# Altium schematic symbol library Schlib1.SchLib: 15 symbols
Pins are listed as number, name and electrical type; pins without a type are passive.

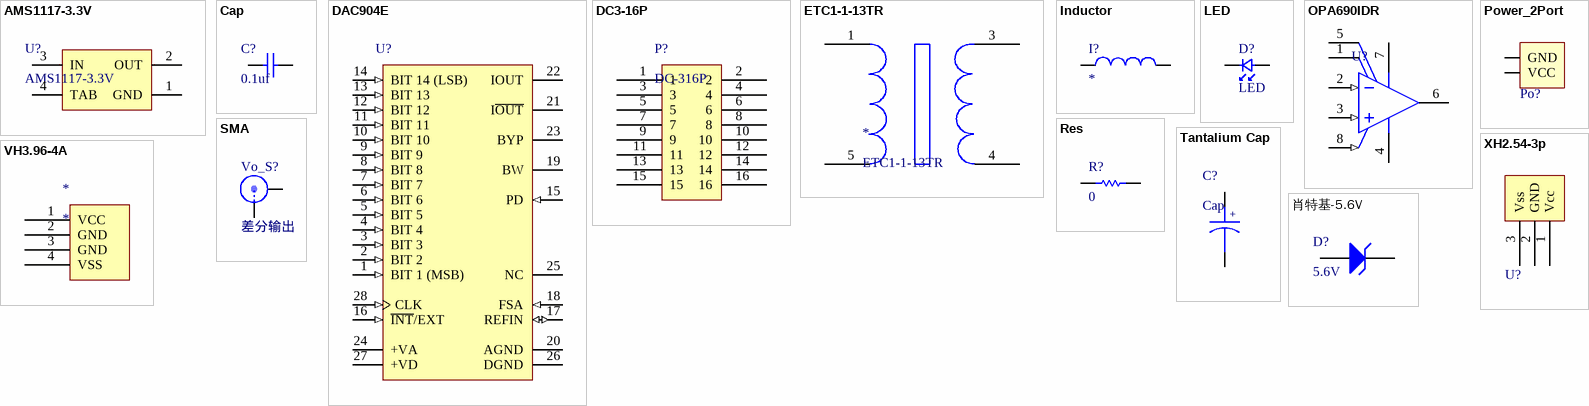
[diagram p0: symbols AMS1117-3.3V to 肖特基-5.6V]

## AMS1117-3.3V
designator U?
footprint SOT223
pins: 1 GND (power), 2 OUT (power), 3 IN (power), 4 TAB (power)

## Cap
designator C?, comment 0.1uf
footprint 0805
footprint 0603C
pins: 1, 2

## DAC904E
designator U?
14-Bit, 165 MSPS SpeedPlus(TM) DAC Scalable Current Outputs between 2 to 20 mA, -40 to 85 degC, 28-pin SOP (PW28), Green (RoHS & no Sb/Br); Manufacturer: Texas Instruments; PartNumber: DAC904E; DAC Channels: 1; Interface: Parallel CMOS; Power Consumption(Typ)(mW): 170; Resolution(Bits): 14; Settling Time(us): 0.03; SFDR(dB): 76; SubFamily: High Speed DAC (>10MSPS); DatasheetVersion: SBAS095C; PackageVersion: 4040064-7/G, 02/2011; PackageReference: PW28; PackageDescription: 28-Pin Plastic Small Outline, Body 9.7 x 4.4 mm, Pitch 0.65 mm; Eco-Plan: Green (RoHS & no Sb/Br); Mounting Technology: Surface Mount; Code_JEDEC: MO-153; ComponentLink1Description: Manufacturer URL; ComponentLink1URL: http://www.ti.com/; ComponentLink2Description: Datasheet; ComponentLink2URL: http://www.ti.com/general/docs/lit/getliterature.tsp?genericPartNumber=DAC904&fileType=pdf; ComponentLink3Description: Package Specification; ComponentLink3URL: http://www.ti.com/litv/pdf/mpds364
footprint TI-PW28_N (SOP, 28-Leads, Body 9.7x4.4mm, Pitch 0.65mm, IPC Medium Density)
footprint TI-PW28_L (SOP, 28-Leads, Body 9.7x4.4mm, Pitch 0.65mm, IPC High Density)
footprint TI-PW28_M (SOP, 28-Leads, Body 9.7x4.4mm, Pitch 0.65mm, IPC Low Density)
pins: 1 BIT 1 (MSB) (in) "Data Bit 1 (D13), MSB", 2 BIT 2 (in) "Data Bit 2 (D12)", 3 BIT 3 (in) "Data Bit 3 (D11)", 4 BIT 4 (in) "Data Bit 4 (D10)", 5 BIT 5 (in) "Data Bit 5 (D9)", 6 BIT 6 (in) "Data Bit 6 (D8)", 7 BIT 7 (in) "Data Bit 7 (D7)", 8 BIT 8 (in) "Data Bit 8 (D6)", 9 BIT 9 (in) "Data Bit 9 (D5)", 10 BIT 10 (in) "Data Bit 10 (D4)", 11 BIT 11 (in) "Data Bit 11 (D3)", 12 BIT 12 (in) "Data Bit 12 (D2)", 13 BIT 13 (in) "Data Bit 13 (D1)", 14 BIT 14 (LSB) (in) "Data Bit 14 (D0), LSB", 15 PD (in) "Power Down, Control Input; Active HIGH. Contains internal pull-down circuit; may be left unconnected if not used.", 16 ~{INT}/EXT (in) "Reference Select Pin; Internal ( = 0) or External ( = 1) Reference Operation", 17 REFIN (io) "Reference Input/Ouput. See Applications section for further details.", 18 FSA (in) "Full-Scale Output Adjust", 19 BW "Bandwidth/Noise Reduction Pin: Bypass with 0.1uF to +VA for Optimum Performance. (Optional)", 20 AGND (power) "Analog Ground", 21 I~{OUT} (hiz) "Complementary DAC Current Output", 22 IOUT (hiz) "DAC Current Output", 23 BYP "Bypass Node: Use 0.1uF to AGND", 24 +VA (power) "Analog Supply Voltage, 2.7V to 5.5V", 25 NC "No Internal Connection", 26 DGND (power) "Digital Ground", 27 +VD (power) "Digital Supply Voltage, 2.7V to 5.5V", 28 CLK (in) "Clock Input"

## DC3-16P
designator P?, comment DC-316P
footprint DC3-14P
pins: 1, 2, 3, 4, 5, 6, 7, 8, 9, 10, 11, 12, 13, 14, 15, 16

## ETC1-1-13TR
designator *
footprint SM-22
pins: 1, 3, 4, 5

## Inductor
designator I?
footprint 0603C
pins: 1, 2

## LED
designator D?
footprint 0805_s
pins: 1, 2

## OPA690IDR
designator U?
Wideband, Voltage Feedback Operational Amplifier with Disable, 5 to 12 V, -40 to 85 degC, 8-pin SOIC (D8), Green (RoHS & no Sb/Br); Manufacturer: Texas Instruments; PartNumber: OPA690IDR; 2nd Harmonic(dBc): 77; 3rd Harmonic(dBc): 81; @ MHz: 5; Acl, min stable gain(V/V): 1; BW @ Acl(MHz): 500; Diff Gain(%): 0.06; Diff Phase(deg): 0.03; Iib(Max)(nA): 11000; Io(Typ)(mA): 190; Iq per channel(Max)(mA): 6.2; Settling Time (0.1%)(Typ)(ns): 8; Slew Rate(Typ)(V/us): 1800; Sub Family: High Output Current Amplifier (>=50mA), High Speed Amplifier (>=50MHz); THD (Fc is 1 MHz)(Typ)(dB): -80; Vio(Max)(mV): 4.5; Vn at Flatband(Typ)(nV/rtHz): 5.5; Vs(Max)(V): 12; DatasheetVersion: SBOS223F; PackageVersion: 4040047-3/M, 06/2011; PackageReference: D8; PackageDescription: 8-Pin Plastic Small Outline, Body 4.9 x 3.9 mm, Pitch 1.27 mm; Eco-Plan: Green (RoHS & no Sb/Br); Number of Channels: 1; Vs(Min)(V): 5; Mounting Technology: Surface Mount; Code_JEDEC: MS-012; ComponentLink1Description: Manufacturer URL; ComponentLink1URL: http://www.ti.com/; ComponentLink2Description: Datasheet; ComponentLink2URL: http://www.ti.com/general/docs/lit/getliterature.tsp?genericPartNumber=OPA690&fileType=pdf; ComponentLink3Description: Package Specification; ComponentLink3URL: http://www.ti.com/litv/pdf/msoi002j
footprint TI-D8_N (SOIC, 8-Leads, Body 4.9x3.9mm, Pitch 1.27mm, IPC Medium Density)
footprint TI-D8_L (SOIC, 8-Leads, Body 4.9x3.9mm, Pitch 1.27mm, IPC High Density)
footprint TI-D8_M (SOIC, 8-Leads, Body 4.9x3.9mm, Pitch 1.27mm, IPC Low Density)
pins: 1 NC, 2 IN- (in), 3 IN+ (in), 4 VS- (power), 5 NC, 6 OUT (hiz), 7 VS+ (power), 8 ~{DIS} (in)

## Power_2Port
designator Po?  (value not drawn)
footprint Power_S_2Port
pins: 1 VCC, 2 GND

## Res
designator R?, comment 0
footprint 0805
footprint 0603R
pins: 1, 2

## SMA
designator Vo_S?, comment 差分输出
footprint SMA-LYING
footprint SMA-STAND
pins: 0, 1

## Tantalium Cap
designator C?, comment Cap
footprint 7343-31 TYPE D
footprint 7343C-TYPE_D
pins: 1, 2
text: +

## VH3.96-4A
designator *
footprint VH3.96-4P
footprint VH3.96-4P
pins: 1 VCC, 2 GND, 3 GND, 4 VSS

## XH2.54-3p
designator U?  (value not drawn)
footprint XH2.54-3p
pins: 1 Vcc, 2 GND, 3 Vss

## 肖特基-5.6V
designator D?, comment 5.6V
footprint SMA/DO-214AC
pins: 1 A, 2 K